# Altium footprint library TSM-103-01-L-SV.PcbLib: 2 footprints
Each footprint in its own frame and in the unit in brackets; x right, y up, seen from the top. Pads: shape width x height; smd on the part's side, far side on the other; paste and mask are expansions set on the pad; w line width, h text height; cw(c..) or ccw(c..) is an arc to the next point about the centre after c.
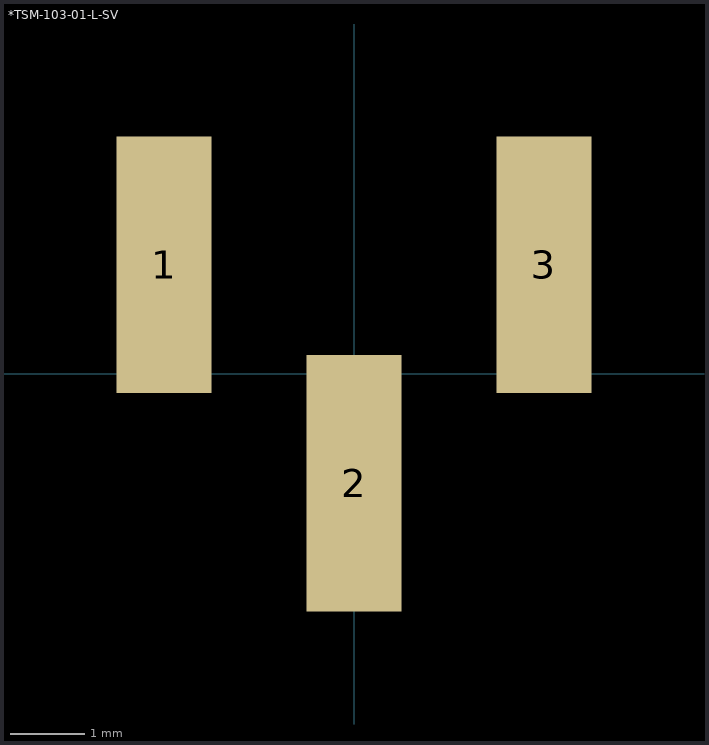
[diagram p0: the footprints below, top view; thin cyan lines are the x and y axes]

## *TSM-103-01-L-SV [mm]
pads (3):
  rect 1.27x3.43 smd: 1(-2.54,1.46) 2(0,-1.46) 3(2.54,1.46)
Top Paste:
  region: 1.905,3.175 3.175,3.175 3.175,-0.255 1.905,-0.255
  region: -0.635,0.255 0.635,0.255 0.635,-3.175 -0.635,-3.175
  region: -3.175,3.175 -1.905,3.175 -1.905,-0.255 -3.175,-0.255
Top Solder:
  region: 1.854,3.226 3.226,3.226 3.226,-0.306 1.854,-0.306
  region: -0.686,0.306 0.686,0.306 0.686,-3.226 -0.686,-3.226
  region: -3.226,3.226 -1.854,3.226 -1.854,-0.306 -3.226,-0.306
3D body "TSM-103-01-L-SV.stp": height 9.78, standoff 0.13, extent -3.937,-2.642 3.683,2.642

## PCBComponent_1 [mil]